# Altium integrated library INA143U.IntLib: 1 symbol
Pins are listed as number, name and electrical type; pins without a type are passive.

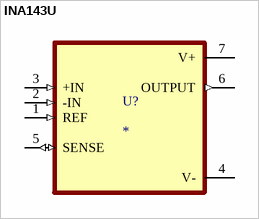
[diagram p0: symbol INA143U]

## INA143U
designator U?
MP: INA143U; Package: None; Price: None; Value: *; Availability: Unavailable
footprint SOIC127P599X175-8N
pins: 1 REF (in), 2 -IN (in), 3 +IN (in), 4 V- (power), 5 SENSE (io), 6 OUTPUT (out), 7 V+ (power)